# Altium footprint library SR PCB Library V01.PcbLib: 402 footprints (part 15 of 26)
Each footprint in its own frame and in the unit in brackets; x right, y up, seen from the top. Pads: shape width x height; smd on the part's side, far side on the other; paste and mask are expansions set on the pad; w line width, h text height; cw(c..) or ccw(c..) is an arc to the next point about the centre after c.
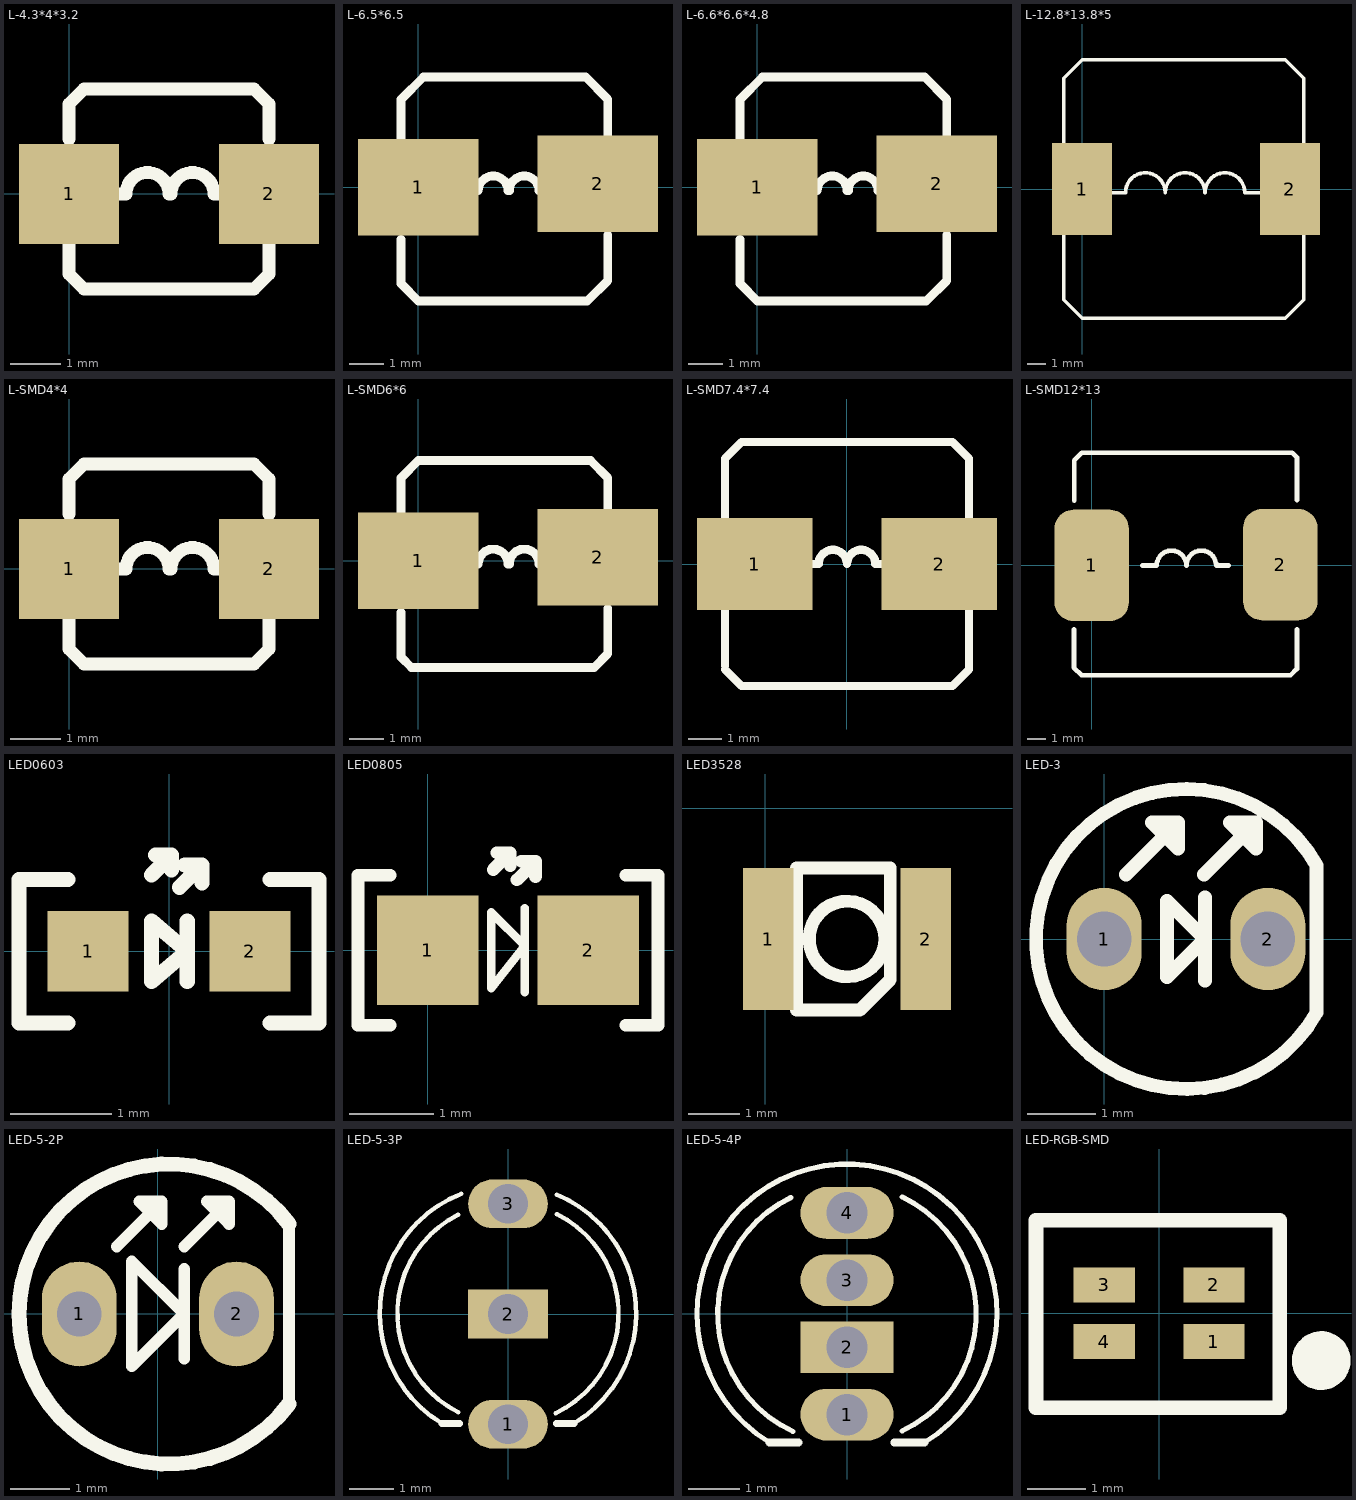
[diagram p14: the footprints below, top view; thin cyan lines are the x and y axes]

## L-4.3*4*3.2 [mm]
pads (2):
  rect 2x2 smd: 1(0,0) 2(4,0)
Top Overlay:
  lines w0.254: 0,-1 0,-1.6 0.3,-1.9 3.7,-1.9 4,-1.6 4,-1 ; 0,1.1 0,1.8 0.3,2.1 3.7,2.1 4,1.8 4,1.1 ; 0.9,0 1.1,0 ; 1.14,0 cw(c1.57,0) 2,0 ; 2.04,0 cw(c2.47,0) 2.9,0 3.1,0

## L-6.5*6.5 [mm]
pads (2):
  rect 3.5x2.8 smd: 1(0,0) 2(5.2,0.1)
Top Overlay:
  lines w0.254: -0.5,-1.51 -0.5,-2.8 0,-3.3 4.9,-3.3 5.494,-2.706 5.494,-1.38 ; -0.5,1.3 -0.5,2.55 0.15,3.2 4.85,3.2 5.494,2.556 5.494,1.21 ; 1.5,-0.1 1.7,-0.1 ; 1.74,-0.1 cw(c2.17,-0.1) 2.6,-0.1 ; 2.64,-0.1 cw(c3.07,-0.1) 3.5,-0.1 3.7,-0.1

## L-6.6*6.6*4.8 [mm]
pads (2):
  rect 3.5x2.8 smd: 1(0,0) 2(5.2,0.1)
Top Overlay:
  lines w0.254: -0.5,-1.51 -0.5,-2.8 0,-3.3 4.9,-3.3 5.494,-2.706 5.494,-1.38 ; -0.5,1.3 -0.5,2.55 0.15,3.2 4.85,3.2 5.494,2.556 5.494,1.21 ; 1.5,-0.1 1.7,-0.1 ; 1.74,-0.1 cw(c2.17,-0.1) 2.6,-0.1 ; 2.64,-0.1 cw(c3.07,-0.1) 3.5,-0.1 3.7,-0.1

## L-12.8*13.8*5 [mm]
pads (2):
  rect 3.25x5 smd: 1(0,0) 2(11.25,0)
Top Overlay:
  lines w0.2: -1,-2.5 -1,-6 0,-7 11,-7 12,-6 12,-2.5 ; -1,2.5 -1,6 0,7 11,7 12,6 12,2.5 ; 1.5,-0.2 2.346,-0.2 cw(c3.423,-0.2) 4.5,-0.2 cw(c5.577,-0.2) 6.654,-0.2 cw(c7.731,-0.2) 8.808,-0.2 ; 8.8,-0.2 9.8,-0.2

## L-SMD4*4 [mm]
pads (2):
  rect 2x2 smd: 1(0,0) 2(4,0)
Top Overlay:
  lines w0.254: 0,-1 0,-1.6 0.3,-1.9 3.7,-1.9 4,-1.6 4,-1 ; 0,1.1 0,1.8 0.3,2.1 3.7,2.1 4,1.8 4,1.1 ; 0.9,0 1.1,0 ; 1.14,0 cw(c1.57,0) 2,0 ; 2.04,0 cw(c2.47,0) 2.9,0 3.1,0

## L-SMD6*6 [mm]
pads (2):
  rect 3.5x2.8 smd: 1(0,0) 2(5.2,0.1)
Top Overlay:
  lines w0.254: -0.5,-1.51 -0.5,-2.8 -0.2,-3.1 5.1,-3.1 5.494,-2.706 5.494,-1.38 ; -0.5,1.3 -0.5,2.4 0,2.9 4.994,2.9 5.494,2.4 5.494,1.21 ; 1.5,-0.1 1.7,-0.1 ; 1.74,-0.1 cw(c2.17,-0.1) 2.6,-0.1 ; 2.64,-0.1 cw(c3.07,-0.1) 3.5,-0.1 3.7,-0.1

## L-SMD7.4*7.4 [mm]
pads (2):
  rect 3.5x2.8 smd: 1(-2.794,0) 2(2.806,0)
Top Overlay:
  lines w0.254: -3.694,-3.2 -3.194,-3.7 3.206,-3.7 3.706,-3.2 ; -3.694,-3.09 -3.694,-1.41 ; -3.694,1.4 -3.694,3.15 ; -3.694,3.2 -3.194,3.7 3.206,3.7 3.706,3.2 3.706,1.31 ; -1.054,0 -0.854,0 cw(c-0.424,0) 0.006,0 cw(c0.436,0) 0.866,0 1.066,0 ; 3.706,-3.16 3.706,-1.28

## L-SMD12*13 [mm]
height 1.75
pads (2):
  rrect50% 4x6 smd: 1(0,0) 2(10.162,0.042)
Top Overlay:
  lines w0.254: -0.957,-3.454 -0.957,-5.512 -0.546,-5.923 10.711,-5.923 11.057,-5.577 11.057,-3.454 ; -0.943,3.48 -0.943,5.67 -0.536,6.077 10.804,6.077 11.057,5.824 11.057,3.505 ; 2.743,0 3.489,0 ; 3.5,0 cw(c4.3,0) 5.1,0 ; 5.105,0 cw(c5.905,0) 6.705,0 ; 6.718,0 7.391,0

## LED0603 [mm] "引脚中心距1.6mm"
height 1
pads (2):
  rect 0.8x0.8 smd: 1(-0.8,0) 2(0.8,0)
Top Overlay:
  lines w0.15: -1,-0.711 -1.484,-0.711 -1.484,0.711 -1,0.711 ; -0.175,0.754 0.025,0.954 ; -0.135,0.954 0.025,0.954 ; 0.025,0.804 0.025,0.954 ; 0.105,0.634 0.325,0.854 ; 0.155,0.854 0.325,0.854 ; 0.18,-0.3 0.18,0.3 ; 0.325,0.674 0.325,0.854 ; 1,-0.711 1.484,-0.711 1.484,0.711 1,0.711 ; -0.175,-0.3 -0.175,0.3 0.18,0 -0.175,-0.3

## LED0805 [mm]
pads (2):
  rect 1.2x1.3 smd: 1(0,0) 2(1.9,0)
Top Overlay:
  lines w0.1: 1.15,-0.5 1.15,0.5 ; 0.75,0.45 0.75,-0.45 1.15,0.05 ; 0.75,0.45 1.15,0.05 ; 0.75,0.45 1.15,0.05
  lines w0.15: -0.447,-0.889 -0.828,-0.889 -0.828,0.889 -0.447,0.889 ; 0.775,0.954 0.975,1.154 ; 0.815,1.154 0.975,1.154 ; 0.975,1.004 0.975,1.154 ; 1.055,0.834 1.275,1.054 ; 1.105,1.054 1.275,1.054 ; 1.275,0.874 1.275,1.054 ; 2.347,-0.889 2.728,-0.889 2.728,0.889 2.347,0.889

## LED3528 [mm]
pads (2):
  rect 1x2.8 smd: 1(0.056,-2.567) 2(3.156,-2.567)
Top Overlay:
  circle w0.254: c1.606,-2.567 r0.743
  lines w0.254: 0.616,-3.967 0.616,-1.167 2.456,-1.167 2.456,-3.367 1.856,-3.967 0.616,-3.967

## LED-3 [mm]
pads (2):
  oval 1.1x1.5 hole 0.8: 1(0,0) 2(2.4,0)
Top Overlay:
  lines w0.203: 0.322,0.946 1.084,1.708 ; 1.465,0.946 2.227,1.708 ; 1.479,-0.61 1.479,0.61 ; 3.116,-1.073 3.116,1.082 ccw(c1.2,0) 3.119,-1.076 ; 1.084,1.708 0.703,1.708 1.084,1.327 1.084,1.708 ; 2.227,1.708 2.227,1.327 1.846,1.708 2.227,1.708 ; 0.921,-0.559 1.479,0 0.921,0.559 0.921,-0.559

## LED-5-2P [mil]
pads (2):
  oval 50x70 hole 30: 1(-52.5,0) 2(52.5,0)
Top Overlay:
  lines w7.78: -27.5,45 2.5,75 ; 17.5,-30 17.5,30 ; 17.5,45 47.5,75 ; 87.5,-60.15 87.5,60 ; 2.5,75 2.5,60 -12.5,75 2.5,75 ; 47.5,75 47.5,60 32.5,75 47.5,75 ; -17.5,-35 -17.5,35 17.5,0 -17.5,-35
  lines w10: 87.5,-60.15 cw(c7.4,-0.07) 87.5,60

## LED-5-3P [mm]
height 10
pads (3):
  oval 1.8x1.1 hole 0.9: 1(0,-2.49) 3(0,2.49)
  rect 1.8x1.1 hole 0.9: 2(0,0)
Top Overlay:
  lines w0.1: -1.496,-2.47 cw(c0,0.014) -1.06,2.713 ; -1.124,2.247 ccw(c0,0.014) -1.123,-2.22 ; 1.073,-2.244 ccw(c0,0.014) 1.102,2.258 ; 1.098,2.698 cw(c0,0.014) 1.496,-2.47
  lines w0.15: -1.496,-2.476 -1.092,-2.476 ; 1.094,-2.476 1.499,-2.476

## LED-5-4P [mm]
height 10
pads (4):
  oval 1.8x1 hole 0.8: 1(0,-1.95) 3(0,0.65) 4(0,1.95)
  rect 1.8x1 hole 0.8: 2(0,-0.65)
Top Overlay:
  lines w0.1: -1.496,-2.489 cw(c0,-0.005) 1.496,-2.489 ; -1.085,2.248 ccw(c0,-0.005) -1.049,-2.274 ; 1.062,2.258 cw(c0,-0.005) 1.069,-2.265
  lines w0.15: -1.499,-2.489 -0.94,-2.489 ; 0.914,-2.489 1.499,-2.489

## LED-RGB-SMD [mm]
pads (4):
  rect 1.05x0.6 smd: 1(0.943,-0.488) 2(0.943,0.488) 3(-0.943,0.488) 4(-0.943,-0.488)
Top Overlay:
  circle w0.5: c2.786,-0.814 r0.254
  lines w0.254: -2.116,-1.626 2.075,-1.626 2.075,1.599 -2.116,1.599 -2.116,-1.626